# Altium footprint library PCB_control_unit.PcbLib: 25 footprints (part 2 of 2)
Each footprint in its own frame and in the unit in brackets; x right, y up, seen from the top. Pads: shape width x height; smd on the part's side, far side on the other; paste and mask are expansions set on the pad; w line width, h text height; cw(c..) or ccw(c..) is an arc to the next point about the centre after c.
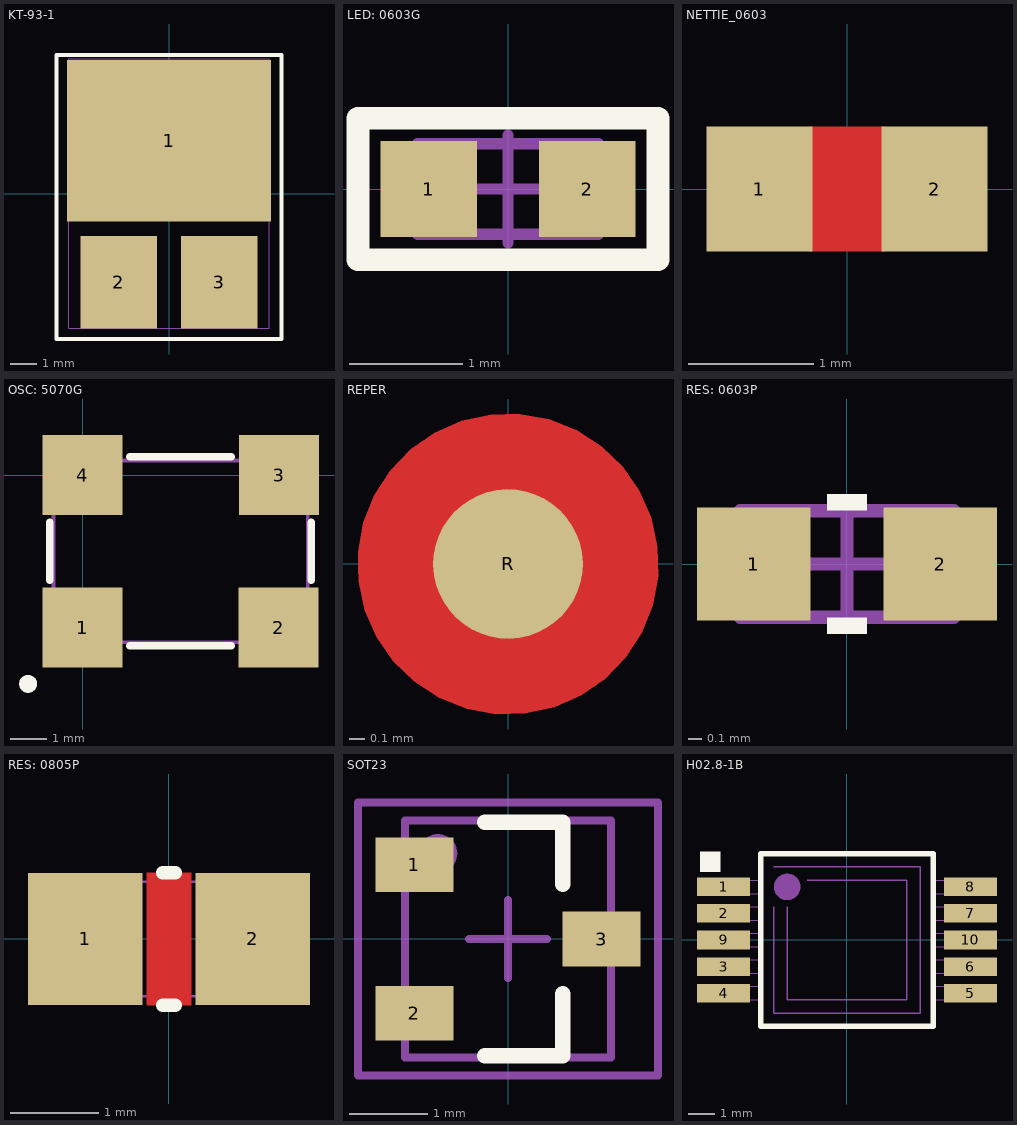
[diagram p1: the footprints below, top view; thin cyan lines are the x and y axes]

## KT-93-1 [mm]
height 5.3
pads (3):
  rect 7.7x6.1 smd mask+0.075: 1(0,2)
  rect 2.9x3.5 smd mask+0.075: 2(-1.905,-3.35) 3(1.905,-3.35)
Top Overlay:
  lines w0.15: -4.25,-5.5 4.25,-5.5 4.25,5.25 -4.25,5.25 -4.25,-5.5
Top Assy:
  lines w0.025: -3.8,-5.1 -3.8,5.1 3.8,5.1 3.8,-5.1 -3.8,-5.1
3D body "KT-93-1.STEP": height 3, standoff 0, extent -3.75,-5.075 3.75,5.025

## LED: 0603G [mm]
height 0.45
pads (2):
  rect 0.85x0.85 smd: 1(-0.7,0) 2(0.7,0)
Top Overlay:
  lines w0.2: -1.325,-0.625 1.325,-0.625 1.325,0.625 -1.325,0.625 -1.325,-0.625
Top Assy:
  lines w0.1: -0.8,-0.4 0.8,-0.4 0.8,0.4 -0.8,0.4 -0.8,-0.4
Mechanical 15:
  lines w0.1: -0.475,0 0.475,0 ; 0,-0.475 0,0.475 ; -1.325,-0.625 1.325,-0.625 1.325,0.6 -1.325,0.6 -1.325,-0.625
3D body "User Library-LED_0603_G.STEP": height 0.6, standoff 0, extent -0.8,-0.4 0.8,0.4

## NETTIE_0603 [mm]
pads (2):
  rect 0.85x1 smd: 1(-0.7,0) 2(0.7,0)
Top Layer:
  rectangle: -0.3,-0.5 0.3,0.5

## OSC: 5070G [mm]
height 1.6
pads (5):
  rect 2.2x2.2 smd: 1(0,-4.2) 2(5.4,-4.2) 3(5.41,0) 4(0,0)
  round 0.5 on Top Overlay: ""(-1.5,-5.75)
Top Overlay:
  lines w0.2: -0.9,-2.9 -0.9,-1.3 ; 1.3,-4.7 4.1,-4.7 ; 1.3,0.5 4.1,0.5 ; 6.3,-2.9 6.3,-1.3
Top Assy:
  lines w0.1: -0.8,-4.6 6.2,-4.6 6.2,0.4 -0.8,0.4 -0.8,-4.6
3D body "User Library-50 MHz.STEP": height 1.51, standoff -0.01, extent -0.8,-4.6 6.2,0.4

## REPER [mm] "реперная метка для станка"
height 7.5
pads (1):
  round 1 smd mask+0.5: R(0,0)
Top Layer:
  pour cut-out: 0.017,-1 -0.081,-1.002 -0.275,-0.967 -0.458,-0.894 -0.624,-0.788 -0.766,-0.651 -0.878,-0.489 -0.956,-0.308 -0.998,-0.116 -1,-0.017 -1.002,0.081 -0.967,0.275 -0.894,0.458 -0.788,0.624 -0.651,0.766 -0.489,0.878 -0.308,0.956 -0.116,0.998 -0.017,1 0.081,1.002 0.275,0.967 0.458,0.894 0.624,0.788 0.766,0.651 0.878,0.489 0.956,0.308 0.998,0.116 1,0.017 1.002,-0.081 0.967,-0.275 0.894,-0.458 0.788,-0.624 0.651,-0.766 0.489,-0.878 0.308,-0.956 0.116,-0.998

## RES: 0603P [mm] "small footprint"
height 0.45
pads (2):
  rect 0.85x0.85 smd: 1(-0.7,0) 2(0.7,0)
Top Overlay:
  rectangle: -0.15,-0.525 0.15,-0.4
  rectangle: -0.15,0.4 0.15,0.525
Top Assy:
  lines w0.1: -0.8,-0.4 0.8,-0.4 0.8,0.4 -0.8,0.4 -0.8,-0.4
Mechanical 15:
  lines w0.1: -0.475,0 0.475,0 ; 0,-0.475 0,0.475
3D body "chip_0603_r.STEP": height 0.44, standoff -0.02, extent -0.8,-0.4 0.8,0.4

## RES: 0805P [mm] "small footprint"
height 0.55
pads (2):
  rect 1.3x1.5 smd: 1(-0.95,0) 2(0.95,0)
Top Layer:
  pour cut-out: -0.25,-0.75 -0.25,0.75 0.25,0.75 0.25,-0.75
Top Overlay:
  lines w0.15: -0.075,-0.75 0.075,-0.75 ; -0.075,0.75 0.075,0.75
Top Assy:
  lines w0.025: -1,-0.65 -1,0.65 1,0.65 1,-0.65 -1,-0.65
3D body "R-0805.STEP": height 0.6, standoff 0, extent -1,-0.625 1,0.625

## SOT23 [mm]
height 1.1
pads (4):
  rect 1x0.7 smd: 1(-1.2,0.95) 2(-1.2,-0.95) 3(1.2,0)
  round 0.5 on Mech1: ""(-0.9,1.1)
Top Overlay:
  lines w0.2: -0.3,-1.5 0.7,-1.5 0.7,-0.7 ; -0.3,1.5 0.7,1.5 0.7,0.7
Top Assy:
  lines w0.1: -1.32,-1.52 1.32,-1.52 1.32,1.52 -1.32,1.52 -1.32,-1.52
Mechanical 15:
  lines w0.1: -0.5,0 0.5,0 ; 0,-0.5 0,0.5 ; -1.925,-1.75 -1.925,1.75 1.925,1.75 1.925,-1.75 -1.925,-1.75
3D body "SOT95P237X112-3N.step": height 1.12, standoff 0, extent -1.32,-1.52 1.32,1.52

## Н02.8-1В [mm] "USSR"
height 0.4
pads (10):
  rect 2x0.7 smd: 1(-4.65,2) 2(-4.65,1) 3(-4.65,-1) 4(-4.65,-2) 5(4.65,-2) 6(4.65,-1) 7(4.65,1) 8(4.65,2) 9(-4.65,0) 10(4.65,0)
Top Overlay:
  region: -5.525,2.575 -4.775,2.575 -4.775,3.325 -5.525,3.325
  lines w0.2: -3.25,-3.25 -3.25,3.25 3.25,3.25 3.25,-3.25 -3.25,-3.25
Top Assy:
  circle w0.5: c-2.25,2 r0.25
  lines w0.025: -3.25,-2.25 -5.5,-2.25 -5.5,-1.75 -3.25,-1.75 ; -3.25,-1.25 -5.5,-1.25 -5.5,-0.75 -3.25,-0.75 ; -3.25,-0.25 -5.5,-0.25 -5.5,0.25 -3.25,0.25 ; -3.25,0.75 -5.5,0.75 -5.5,1.25 -3.25,1.25 ; -3.25,1.75 -5.5,1.75 -5.5,2.25 -3.25,2.25 ; 3.25,-2.25 5.5,-2.25 5.5,-1.75 3.25,-1.75 ; 3.25,-1.25 5.5,-1.25 5.5,-0.75 3.25,-0.75 ; 3.25,-0.25 5.5,-0.25 5.5,0.25 3.25,0.25 ; 3.25,0.75 5.5,0.75 5.5,1.25 3.25,1.25 ; 3.25,1.75 5.5,1.75 5.5,2.25 3.25,2.25
  lines w0.05: -2.75,1.25 -2.75,-2.75 2.75,-2.75 2.75,2.75 -2.75,2.75 ; -2.25,1.25 -2.25,-2.25 2.25,-2.25 2.25,2.25 -1.5,2.25 ; -3.25,-3.25 3.25,-3.25 3.25,3.25 -3.25,3.25 -3.25,-3.25
Mechanical 11:
  text ".Designator" at -3.125,-0.325 h1.4
3D body "H02_8-1B1.STEP": height 2.85, standoff -0.2, extent -4.75,-3.25 4.75,3.25